# Altium footprint library SFP_CONNECTORS.PcbLib: 2 footprints
Each footprint in its own frame and in the unit in brackets; x right, y up, seen from the top. Pads: shape width x height; smd on the part's side, far side on the other; paste and mask are expansions set on the pad; w line width, h text height; cw(c..) or ccw(c..) is an arc to the next point about the centre after c.
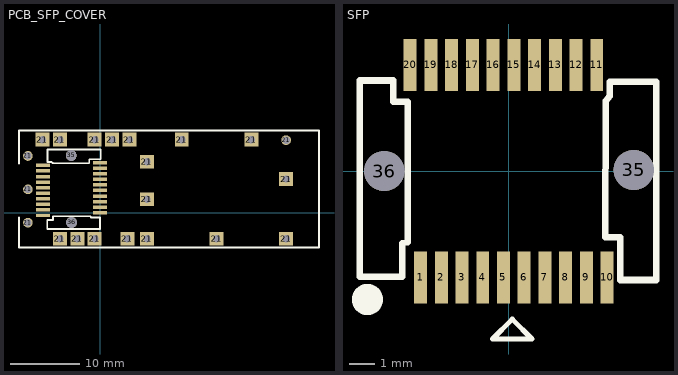
[diagram p0: the footprints below, top view; thin cyan lines are the x and y axes]

## PCB_SFP_COVER [mm]
pads (43):
  rect 2x0.5 smd: 1(0,0) 2(0,0.8) 3(0,1.6) 4(0,2.4) 5(0,3.2) 6(0,4) 7(0,4.8) 8(0,5.6) 9(0,6.4) 10(0,7.2) 11(-8.2,6.8) 12(-8.2,6) 13(-8.2,5.2) 14(-8.2,4.4) 15(-8.2,3.6) 16(-8.2,2.8) 17(-8.2,2) 18(-8.2,1.2) 19(-8.2,0.4) 20(-8.2,-0.4)
  round 1.4 hole 1.067: 21(-10.387,-1.439) 21(-10.387,3.361) 21(-10.387,8.163) 21(26.75,10.425)
  rect 2x2 hole 1.05: 21(-8.279,10.499) 21(-5.764,-3.75) 21(-5.764,10.499) 21(-3.275,-3.75) 21(-0.786,-3.75) 21(-0.786,10.499) 21(1.729,10.499) 21(3.913,-3.75) 21(4.229,10.499) 21(6.733,-3.75) 21(6.733,1.94) 21(6.733,7.324) 21(11.736,10.499) 21(16.74,-3.75) 21(21.744,10.499) 21(26.748,-3.75) 21(26.748,4.835)
  round 1.55 hole 1.55: 35(-4.15,8.225) 36(-4.1,-1.4)
Top Overlay:
  lines w0.254: -11.657,-0.662 -11.657,-4.995 -5.764,-4.995 31.472,-4.995 31.472,11.811 -11.657,11.811 -11.657,7.085 ; -7.6,-2.35 -7.6,-1.05 -6.775,-1.05 -6.775,-0.5 -1.35,-0.5 -1.325,-0.7 -0.025,-0.7 -0.025,-2.35 -7.6,-2.35 ; -7.55,7.3 -7.55,9.1 0.1,9.1 0.1,7.7 -1.55,7.7 -1.55,7.125 -6.825,7.15 -7,7.3 -7.55,7.3
3D body "SFP_cage.stp": height 10.67, standoff -2.71, extent -10.668,-4.489 38.132,11.347

## SFP [mm] "SFP connector without cage"
pads (22):
  rect 0.5x2 smd: 1(-3.412,-4.1) 2(-2.612,-4.1) 3(-1.812,-4.1) 4(-1.012,-4.1) 5(-0.212,-4.1) 6(0.588,-4.1) 7(1.388,-4.1) 8(2.188,-4.1) 9(2.988,-4.1) 10(3.788,-4.1) 11(3.388,4.1) 12(2.588,4.1) 13(1.788,4.1) 14(0.988,4.1) 15(0.188,4.1) 16(-0.612,4.1) 17(-1.412,4.1) 18(-2.212,4.1) 19(-3.012,4.1) 20(-3.812,4.1)
  round 1.55 hole 1.55: 35(4.813,0.05) 36(-4.812,0)
Top Overlay:
  circle w0.635: c-5.461,-4.953 r0.284
  lines w0.2: -0.635,-6.477 0.127,-5.715 0.889,-6.477 -0.635,-6.477
  lines w0.254: -5.762,-4.075 -5.762,3.5 -4.462,3.5 -4.462,2.675 -3.912,2.675 -3.912,-2.75 -4.112,-2.775 -4.112,-4.075 -5.762,-4.075 ; 3.713,-2.55 3.738,2.725 3.888,2.9 3.888,3.45 5.688,3.45 5.688,-4.2 4.288,-4.2 4.288,-2.55 3.713,-2.55
3D body "20944.stp": height 5.28, standoff -0.6, extent -5.486,-4.536 5.513,4.613